# Altium footprint library WURTH_691137710002.PcbLib: 1 footprints
Each footprint in its own frame and in the unit in brackets; x right, y up, seen from the top. Pads: shape width x height; smd on the part's side, far side on the other; paste and mask are expansions set on the pad; w line width, h text height; cw(c..) or ccw(c..) is an arc to the next point about the centre after c.
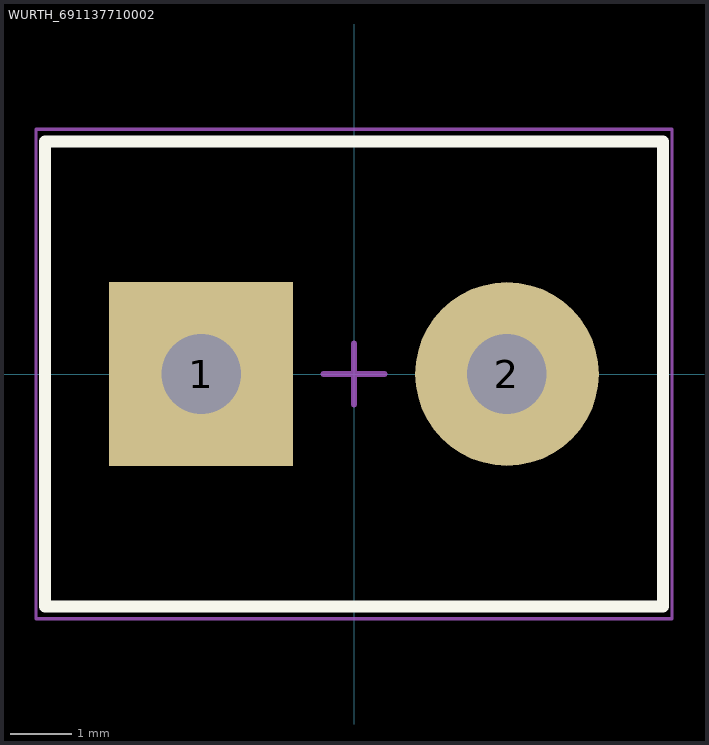
[diagram p0: the footprint, top view; thin cyan lines are the x and y axes]

## WURTH_691137710002 [mm]
height 11.6
pads (2):
  rect 3x3 hole 1.3 mask+0.05: 1(-2.5,0)
  round 3 hole 1.3 mask+0.05: 2(2.5,0)
Top Overlay:
  lines w0.2: -5.05,-3.8 5.05,-3.8 5.05,3.8 -5.05,3.8 -5.05,-3.8
Top 3D Body:
  lines w0.1: -5.05,-3.8 -5.05,3.8 5.05,3.8 5.05,-3.8 -5.05,-3.8
Top Courtyard (Mech15):
  lines w0.05: -5.2,-4 -5.2,4 5.2,4 5.2,-4 -5.2,-4
  lines w0.1: -0.5,0 0.5,0 ; 0,-0.5 0,0.5
3D body "WURTH_691137710002.stp": height 11.5, standoff -3.6, extent -5,-3.75 5,3.75